# Altium integrated library toshiba.IntLib: 5 symbols
Pins are listed as number, name and electrical type; pins without a type are passive.

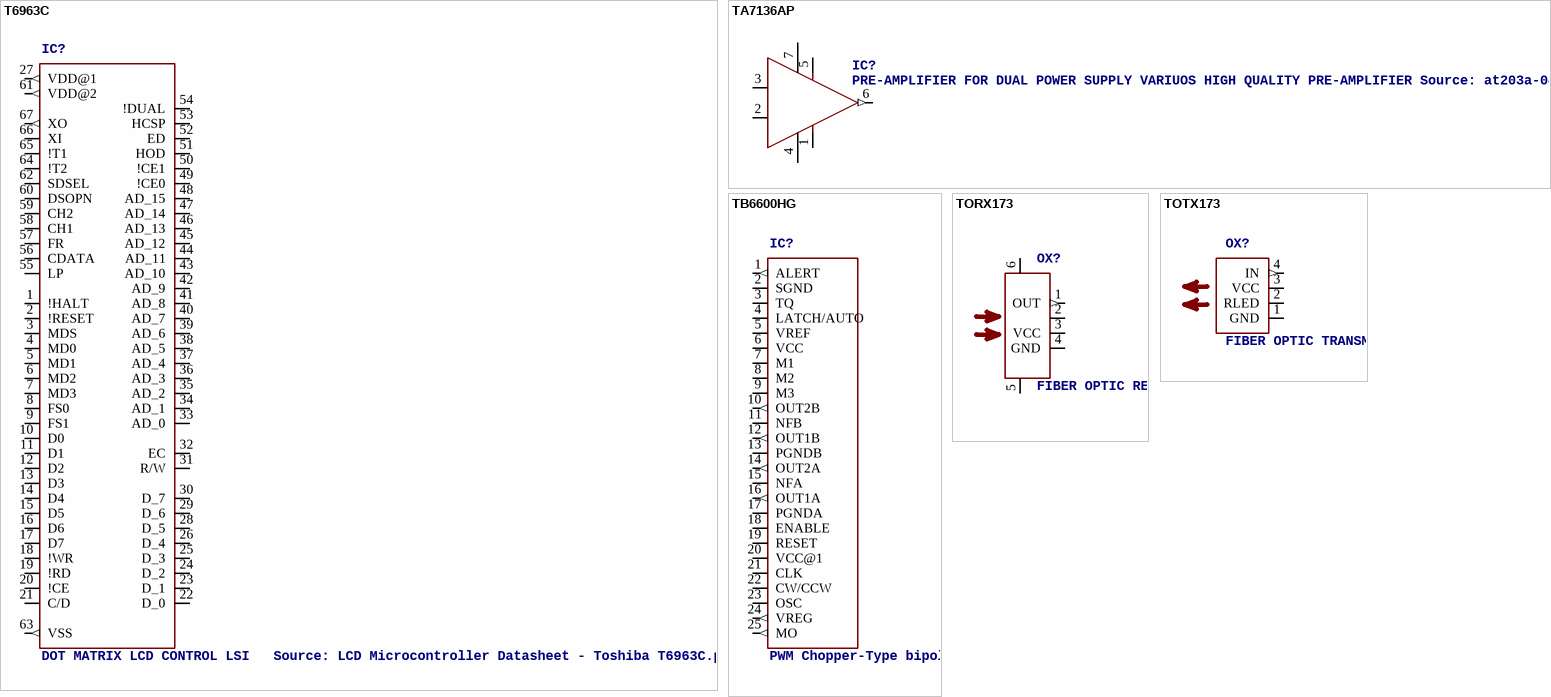
[diagram p0: symbols T6963C to TOTX173]

## T6963C
designator IC?, comment DOT MATRIX LCD CONTROL LSI   Source: LCD Microcontroller Datasheet - Toshiba T6963C.pdf
OC_FARNELL: unknown; OC_NEWARK: unknown
footprint QFP67-P-1420-0.80
pins: 1 !HALT, 2 !RESET, 3 MDS, 4 MD0, 5 MD1, 6 MD2, 7 MD3, 8 FS0, 9 FS1, 10 D0, 11 D1, 12 D2, 13 D3, 14 D4, 15 D5, 16 D6, 17 D7, 18 !WR, 19 !RD, 20 !CE, 21 C/D, 22 D_0, 23 D_1, 24 D_2, 25 D_3, 26 D_4, 27 VDD@1 (out), 28 D_5, 29 D_6, 30 D_7, 31 R/W, 32 EC, 33 AD_0, 34 AD_1, 35 AD_2, 36 AD_3, 37 AD_4, 38 AD_5, 39 AD_6, 40 AD_7, 41 AD_8, 42 AD_9, 43 AD_10, 44 AD_11, 45 AD_12, 46 AD_13, 47 AD_14, 48 AD_15, 49 !CE0, 50 !CE1, 51 HOD, 52 ED, 53 HCSP, 54 !DUAL, 55 LP, 56 CDATA, 57 FR, 58 CH1, 59 CH2, 60 DSOPN, 61 VDD@2 (out), 62 SDSEL, 63 VSS (out), 64 !T2, 65 !T1, 66 XI, 67 XO (out)

## TA7136AP
designator IC?, comment PRE-AMPLIFIER FOR DUAL POWER SUPPLY VARIUOS HIGH QUALITY PRE-AMPLIFIER Source: at203a-044-ta7136ap.tif
footprint SIP7-P-2.54
pins: 1 FREQUCOMP, 2 +IN, 3 -IN, 4 V- (power), 5 VOLTCOMP, 6 OUT (out), 7 V+ (power)

## TB6600HG
designator IC?, comment PWM Chopper-Type bipolar Stepping Motor Driver IC   Auto generated by make-symbol-device-package-bsdl.ulp Rev. 43 Source: TB6600HG.pdf
footprint HZIP25-P-1.00F
pins: 1 ALERT (out), 2 SGND (power), 3 TQ, 4 LATCH/AUTO, 5 VREF, 6 VCC (power), 7 M1, 8 M2, 9 M3, 10 OUT2B (out), 11 NFB, 12 OUT1B (out), 13 PGNDB (power), 14 OUT2A (out), 15 NFA, 16 OUT1A (out), 17 PGNDA (power), 18 ENABLE, 19 RESET, 20 VCC@1, 21 CLK, 22 CW/CCW, 23 OSC, 24 VREG (out), 25 MO (out)

## TORX173
designator OX?, comment FIBER OPTIC RECEIVING MODULE   FOR DIGITAL AUDIO EQUIPMENT, TTL Interface TORX173.pdf
OC_FARNELL: unknown; OC_NEWARK: unknown
footprint TORX173
pins: 1 OUT (out), 2 GND@2 (power), 3 VCC (power), 4 GND (power), 5 GND@5 (power), 6 GND@6 (power)

## TOTX173
designator OX?, comment FIBER OPTIC TRANSMITTING MODULE   FOR DIGITAL AUDIO EQUIPMENT; TTL Interface TOTX173.pdf
OC_FARNELL: unknown; OC_NEWARK: unknown
footprint TOTX173
pins: 1 GND (power), 2 RLED (power), 3 VCC (power), 4 IN (out)